# Altium footprint library Arduino_FPGA_Shield.PcbLib: 31 footprints (part 1 of 2)
Each footprint in its own frame and in the unit in brackets; x right, y up, seen from the top. Pads: shape width x height; smd on the part's side, far side on the other; paste and mask are expansions set on the pad; w line width, h text height; cw(c..) or ccw(c..) is an arc to the next point about the centre after c.
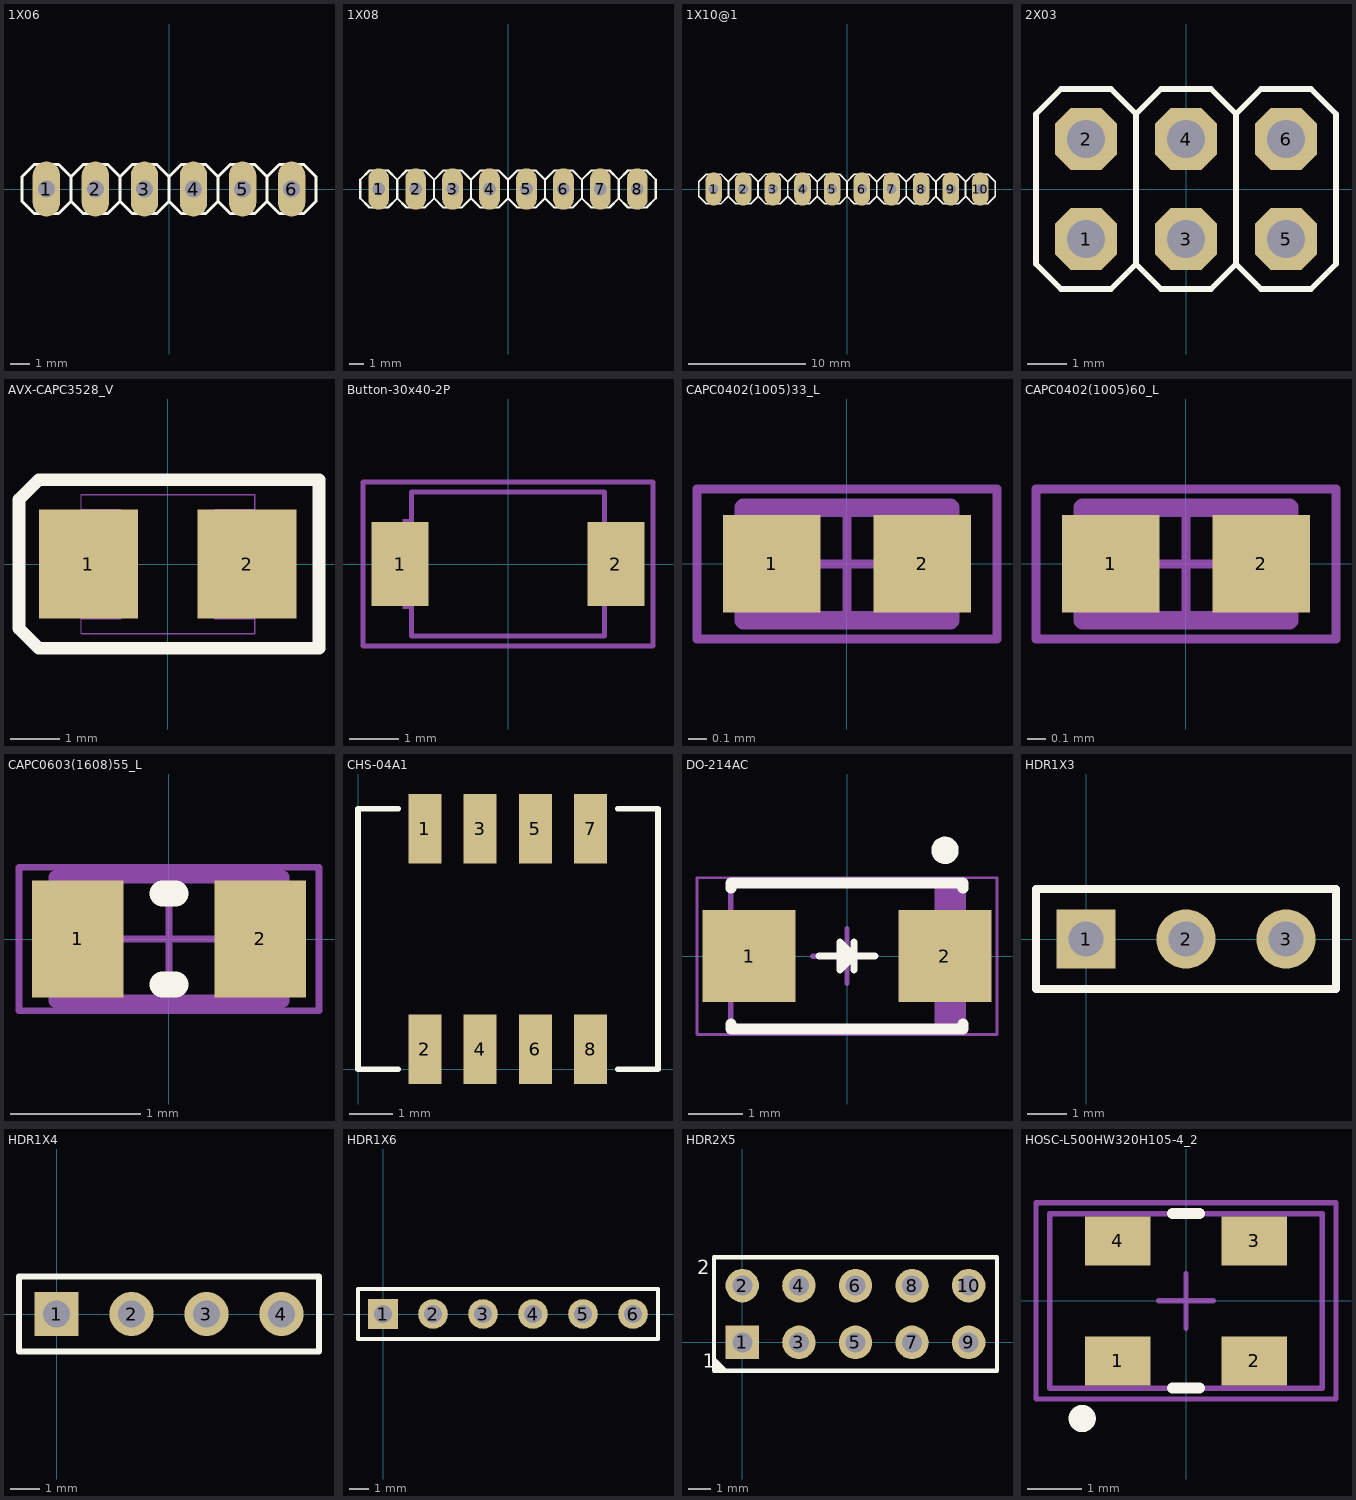
[diagram p0: the footprints below, top view; thin cyan lines are the x and y axes]

## 1X06 [mil] "1X06"
pads (6):
  oval 56x112 hole 34: 1(-250,0) 2(-150,0) 3(-50,0) 4(50,0) 5(150,0) 6(250,0)
Top Overlay:
  lines w6: -200,-25 -200,25 ; -200,-25 -225,-50 -275,-50 -300,-25 -300,25 -275,50 -225,50 -200,25 ; -200,-25 -175,-50 -125,-50 -100,-25 ; -200,25 -175,50 -125,50 -100,25 ; -100,-25 -75,-50 -25,-50 0,-25 ; -100,-25 -100,25 ; -100,25 -75,50 -25,50 0,25 ; 0,-25 0,25 ; 0,-25 25,-50 75,-50 100,-25 ; 0,25 25,50 75,50 100,25 ; 100,-25 100,25 ; 100,-25 125,-50 175,-50 200,-25 ; 100,25 125,50 175,50 200,25 ; 200,-25 200,25 ; 200,-25 225,-50 275,-50 300,-25 300,25 275,50 225,50 200,25
Mechanical 16:
  rectangle: 140,-10 160,10
  rectangle: 40,-10 60,10
  rectangle: -60,-10 -40,10
  rectangle: -160,-10 -140,10
  rectangle: -260,-10 -240,10
  rectangle: 240,-10 260,10
3D body: height 335.25, standoff -411.19, extent -299.99,-49.99 300.01,50.01

## 1X08 [mil] "1X08"
pads (8):
  oval 56x112 hole 34: 1(-350,0) 2(-250,0) 3(-150,0) 4(-50,0) 5(50,0) 6(150,0) 7(250,0) 8(350,0)
Top Overlay:
  lines w6: -300,-25 -275,-50 -225,-50 -200,-25 ; -300,-25 -325,-50 -375,-50 -400,-25 -400,25 -375,50 -325,50 -300,25 ; -300,-25 -300,25 ; -300,25 -275,50 -225,50 -200,25 ; -200,-25 -200,25 ; -200,-25 -175,-50 -125,-50 -100,-25 ; -200,25 -175,50 -125,50 -100,25 ; -100,-25 -75,-50 -25,-50 0,-25 ; -100,-25 -100,25 ; -100,25 -75,50 -25,50 0,25 ; 0,-25 25,-50 75,-50 100,-25 ; 0,-25 0,25 ; 0,25 25,50 75,50 100,25 ; 100,-25 100,25 ; 100,-25 125,-50 175,-50 200,-25 ; 100,25 125,50 175,50 200,25 ; 200,-25 225,-50 275,-50 300,-25 ; 200,-25 200,25 ; 200,25 225,50 275,50 300,25 ; 300,-25 325,-50 375,-50 400,-25 400,25 375,50 325,50 300,25 ; 300,-25 300,25
Mechanical 16:
  rectangle: 340,-10 360,10
  rectangle: -360,-10 -340,10
  rectangle: -260,-10 -240,10
  rectangle: -160,-10 -140,10
  rectangle: -60,-10 -40,10
  rectangle: 40,-10 60,10
  rectangle: 140,-10 160,10
  rectangle: 240,-10 260,10
3D body: height 335.25, standoff -411.19, extent -399.99,-49.99 400.01,50.01

## 1X10@1 [mil] "1X10@1"
pads (10):
  oval 56x112 hole 34: 1(-450,0) 2(-350,0) 3(-250,0) 4(-150,0) 5(-50,0) 6(50,0) 7(150,0) 8(250,0) 9(350,0) 10(450,0)
Top Overlay:
  lines w6: -400,-25 -375,-50 -325,-50 -300,-25 ; -400,-25 -425,-50 -475,-50 -500,-25 -500,25 -475,50 -425,50 -400,25 ; -400,-25 -400,25 ; -400,25 -375,50 -325,50 -300,25 ; -300,-25 -300,25 ; -300,-25 -275,-50 -225,-50 -200,-25 ; -300,25 -275,50 -225,50 -200,25 ; -200,-25 -175,-50 -125,-50 -100,-25 ; -200,-25 -200,25 ; -200,25 -175,50 -125,50 -100,25 ; -100,-25 -75,-50 -25,-50 0,-25 ; -100,-25 -100,25 ; -100,25 -75,50 -25,50 0,25 ; 0,-25 0,25 ; 0,-25 25,-50 75,-50 100,-25 ; 0,25 25,50 75,50 100,25 ; 100,-25 125,-50 175,-50 200,-25 ; 100,-25 100,25 ; 100,25 125,50 175,50 200,25 ; 200,-25 225,-50 275,-50 300,-25 ; 200,-25 200,25 ; 200,25 225,50 275,50 300,25 ; 300,-25 300,25 ; 300,-25 325,-50 375,-50 400,-25 ; 300,25 325,50 375,50 400,25 ; 400,-25 425,-50 475,-50 500,-25 500,25 475,50 425,50 400,25 ; 400,-25 400,25
Mechanical 16:
  rectangle: 440,-10 460,10
  rectangle: -460,-10 -440,10
  rectangle: -360,-10 -340,10
  rectangle: -260,-10 -240,10
  rectangle: -160,-10 -140,10
  rectangle: -60,-10 -40,10
  rectangle: 40,-10 60,10
  rectangle: 140,-10 160,10
  rectangle: 240,-10 260,10
  rectangle: 340,-10 360,10
3D body: height 334.65, standoff -411.79, extent -499.99,-49.99 500.01,50.01

## 2X03 [mil] "2X03"
height 47.24
pads (6):
  oct 62x62 hole 38: 1(-100,-50) 2(-100,50) 3(0,-50) 4(0,50) 5(100,-50) 6(100,50)
Top Overlay:
  lines w6: -50,-75 -50,75 ; -50,-75 -25,-100 25,-100 50,-75 ; -50,-75 -75,-100 -125,-100 -150,-75 -150,75 -125,100 -75,100 -50,75 ; -50,75 -25,100 25,100 50,75 ; 50,-75 75,-100 125,-100 150,-75 150,75 125,100 75,100 50,75 ; 50,-75 50,75
Mechanical 16:
  rectangle: 90,-60 110,-40
  rectangle: 90,40 110,60
  rectangle: -10,-60 10,-40
  rectangle: -10,40 10,60
  rectangle: -110,40 -90,60
  rectangle: -110,-60 -90,-40
3D body: height 335.25, standoff -117.51, extent -149.99,-99.99 150.01,100.01

## AVX-CAPC3528_V [mm] "SMT Capacitor, 2 Leads, Body 3.5x2.8mm"
height 1.2
pads (2):
  rect 2x2.2 smd: 1(-1.6,0) 2(1.6,0)
Top Overlay:
  lines w0.254: -3,-1.3 -3,1.3 -2.6,1.7 3.05,1.7 3.05,-1.7 -2.6,-1.7 -3,-1.3
Mechanical 7:
  lines w0.025: -1.748,-1.404 1.752,-1.404 1.752,1.396 -1.748,1.396 ; -1.748,-1.104 -0.948,-1.104 -0.948,1.096 -1.748,1.096 ; -1.748,-1.404 -1.748,1.396 ; 1.752,-1.104 0.952,-1.104 0.952,1.096 1.752,1.096
3D body: height 1.9, standoff 0, extent -1.704,-1.539 1.763,1.537
3D body: height 0.3, standoff 0, extent 1.578,-0.658 1.803,0.768
3D body: height 0.3, standoff 0, extent -1.793,-0.665 -1.568,0.824

## Button-30x40-2P [mm]
height 1
pads (2):
  rect 1.15x1.7 smd: 1(-2.175,0) 2(2.175,0)
Mechanical 1:
  region: -2.125,0.9 -2,0.9 -2,-0.9 -2.125,-0.9
Mechanical 13:
  lines w0.1: -1.95,-1.45 1.95,-1.45 1.95,1.45 -1.95,1.45 -1.95,-1.45
Mechanical 15:
  lines w0.1: -2.921,-1.651 2.921,-1.651 2.921,1.651 -2.921,1.651 -2.921,-1.651
3D body: height 2.13, standoff 1.5, extent -0.868,-0.873 0.875,0.873
3D body: height 1.52, standoff 0.13, extent -1.95,-1.45 1.95,1.45
3D body: height 1.65, standoff 0, extent 1.375,-0.9 2.125,0.9
3D body: height 1.65, standoff 0, extent -2.125,-0.9 -1.375,0.9

## CAPC0402(1005)33_L [mm] "Chip Capacitor, Body 1.0x0.5mm, Height 0.33mm, IPC High Density"
height 0.33
pads (2):
  rect 0.52x0.52 smd: 1(-0.4,0) 2(0.4,0)
Mechanical 13:
  lines w0.1: -0.55,-0.3 0.55,-0.3 0.55,0.3 -0.55,0.3 -0.55,-0.3
Mechanical 15:
  lines w0.05: -0.3,0 0.3,0 ; 0,-0.3 0,0.3 ; -0.8,-0.4 0.8,-0.4 0.8,0.4 -0.8,0.4 -0.8,-0.4
3D body: height 0.33, standoff 0, extent 0.3,-0.3 0.55,0.3
3D body: height 0.33, standoff 0, extent -0.55,-0.3 -0.3,0.3
3D body: height 0.33, standoff 0, extent -0.3,-0.3 0.3,0.3

## CAPC0402(1005)60_L [mm] "Chip Capacitor, Body 1.0x0.5mm, Height 0.6mm, IPC High Density"
height 0.6
pads (2):
  rect 0.52x0.52 smd: 1(-0.4,0) 2(0.4,0)
Mechanical 13:
  lines w0.1: -0.55,-0.3 0.55,-0.3 0.55,0.3 -0.55,0.3 -0.55,-0.3
Mechanical 15:
  lines w0.05: -0.3,0 0.3,0 ; 0,-0.3 0,0.3 ; -0.8,-0.4 0.8,-0.4 0.8,0.4 -0.8,0.4 -0.8,-0.4
3D body: height 0.6, standoff 0, extent 0.3,-0.3 0.55,0.3
3D body: height 0.6, standoff 0, extent -0.55,-0.3 -0.3,0.3
3D body: height 0.6, standoff 0, extent -0.3,-0.3 0.3,0.3

## CAPC0603(1608)55_L [mm] "Chip Capacitor, Body 1.6x0.8mm, Height 0.55mm, IPC High Density"
height 0.55
pads (2):
  rect 0.7x0.9 smd: 1(-0.7,0) 2(0.7,0)
Top Overlay:
  lines w0.2: -0.05,-0.35 0.05,-0.35 ; -0.05,0.35 0.05,0.35
Mechanical 13:
  lines w0.1: -0.875,-0.475 0.875,-0.475 0.875,0.475 -0.875,0.475 -0.875,-0.475
Mechanical 15:
  lines w0.05: -0.475,0 0.475,0 ; 0,-0.475 0,0.475 ; -1.15,-0.55 1.15,-0.55 1.15,0.55 -1.15,0.55 -1.15,-0.55
3D body: height 0.55, standoff 0, extent 0.525,-0.475 0.875,0.475
3D body: height 0.55, standoff 0, extent -0.875,-0.475 -0.525,0.475
3D body: height 0.55, standoff 0, extent -0.525,-0.475 0.525,0.475

## CHS-04A1 [mm]
height 1.2
pads (8):
  rect 0.76x1.6 smd: 1(1.54,5.54) 2(1.54,0.46) 3(2.81,5.54) 4(2.81,0.46) 5(4.08,5.54) 6(4.08,0.46) 7(5.35,5.54) 8(5.35,0.46)
Top Overlay:
  lines w0.127: 0.93,0 0,0 0,6 0.93,6 ; 5.97,0 6.9,0 6.9,6 5.97,6
3D body: height 2.75, standoff 0.2, extent 2.33,1 3.29,3
3D body: height 2.25, standoff 0.2, extent 4.87,0.97 6,5
3D body: height 2.25, standoff 0.2, extent 3.6,1 4.7,5
3D body: height 2.25, standoff 0.2, extent 2.33,1 3.4,5
3D body: height 2.25, standoff 0.2, extent 1.06,1 2.1,5
3D body: height 2.75, standoff 0.2, extent 1.06,1 2.02,3
3D body: height 2.75, standoff 0.2, extent 3.6,3 4.56,5
3D body: height 2.75, standoff 0.2, extent 4.87,1 5.83,3
3D body: height 2.5, standoff 0.2, extent 0,0 6.9,6
3D body: height 2.5, standoff 0.2, extent 2.02,1 2.33,5
3D body: height 2.5, standoff 0.2, extent 3.29,1 3.6,5
3D body: height 2.5, standoff 0.2, extent 4.56,1 4.87,5
3D body: height 1.5, standoff 0.2, extent 1.06,1 2.1,5
3D body: height 1.5, standoff 0.2, extent 2.33,1 3.4,5
3D body: height 1.5, standoff 0.2, extent 3.6,1 4.7,5
3D body: height 1.5, standoff 0.2, extent 4.87,0.97 6,5
3D body: height 1.5, standoff 0, extent 1.06,6 2.02,6.2
3D body: height 1.5, standoff 0, extent 2.33,6 3.29,6.2
3D body: height 1.5, standoff 0, extent 3.6,6 4.56,6.2
3D body: height 1.5, standoff 0, extent 4.87,6 5.83,6.2
3D body: height 1.5, standoff 0, extent 1.06,-0.2 2.01,0
3D body: height 1.5, standoff 0, extent 2.32,-0.2 3.28,0
3D body: height 1.5, standoff 0, extent 3.59,-0.2 4.55,0
3D body: height 1.5, standoff 0, extent 4.86,-0.2 5.82,0
3D body: height 0.2, standoff 0, extent 1.06,-0.2 2.01,0.8
3D body: height 0.2, standoff 0, extent 2.32,-0.2 3.28,0.8
3D body: height 0.2, standoff 0, extent 3.59,-0.2 4.55,0.8
3D body: height 0.2, standoff 0, extent 4.86,-0.2 5.82,0.8
3D body: height 0.2, standoff 0, extent 1.06,5.2 2.02,6.2
3D body: height 0.2, standoff 0, extent 2.33,5.2 3.29,6.2
3D body: height 0.2, standoff 0, extent 3.6,5.2 4.56,6.2
3D body: height 0.2, standoff 0, extent 4.87,5.2 5.83,6.2

## DO-214AC [mm] "SMA, 2-Leads, Body 4.245x2.665mm, Height 2.29mm"
height 2.29
pads (2):
  rect 1.7x1.68 smd: 1(-1.79,0) 2(1.79,0)
Top Overlay:
  circle w0.25: c1.79,1.933 r0.125
  lines w0.127: -0.508,0 0.508,0 ; 0.127,-0.254 0.127,0.254 ; 0.127,0 -0.127,-0.254 -0.127,0.254 0.127,0 ; 0.127,0 0,0.127 0,-0.127 0.127,0
  lines w0.2: -2.123,-1.24 -2.123,-1.332 2.123,-1.332 2.123,-1.24 ; -2.123,1.24 -2.123,1.332 2.123,1.332 2.123,1.24
Mechanical 13:
  rectangle: 1.6,-1.3 2.1,1.3
  lines w0.1: -2.122,-1.333 -2.122,1.333 2.122,1.333 2.122,-1.333 -2.122,-1.333
Mechanical 15:
  lines w0.05: -2.74,-1.433 2.74,-1.433 2.74,1.432 -2.74,1.433 -2.74,-1.432
  lines w0.1: -0.627,0 0.373,0 ; 0,-0.5 0,0.5
3D body: height -0.41, standoff -1.67, extent -2.567,-0.725 -1.159,0.725
3D body: height -0.41, standoff -1.67, extent 1.159,-0.725 2.567,0.725
3D body: height 2.29, standoff 0, extent -2.123,-1.333 2.122,1.332

## HDR1X3 [mm] "Connector; Header; 3 Position"
height 1.2
pads (3):
  rect 1.5x1.5 hole 0.9: 1(0,0)
  round 1.5 hole 0.9: 2(2.54,0) 3(5.08,0)
Top Overlay:
  lines w0.2: -1.27,-1.27 -1.27,1.27 6.35,1.27 6.35,-1.27 -1.27,-1.27
3D body: height 8.22, standoff -2.98, extent -1.17,-1.246 6.45,1.253

## HDR1X4 [mm] "Connector; Header; 4 Position"
height 1
pads (4):
  rect 1.5x1.5 hole 0.9: 1(0,0)
  round 1.5 hole 0.9: 2(2.54,0) 3(5.08,0) 4(7.62,0)
Top Overlay:
  lines w0.2: -1.27,-1.27 8.89,-1.27 8.89,1.27 -1.27,1.27 -1.27,-1.27
3D body: height 8.2, standoff -3, extent -1.17,-1.245 8.99,1.253

## HDR1X6 [mm] "Connector; Header; 6 Position"
height 1.2
pads (6):
  rect 1.5x1.5 hole 0.9: 1(0,0)
  round 1.5 hole 0.9: 2(2.54,0) 3(5.08,0) 4(7.62,0) 5(10.16,0) 6(12.7,0)
Top Overlay:
  lines w0.2: -1.27,-1.27 -1.27,1.27 13.97,1.27 13.97,-1.27 -1.27,-1.27
3D body: height 8.2, standoff -3, extent -1.17,-1.246 14.07,1.253

## HDR2X5 [mm] "Connector; Header; 5x2 Position"
height 1.2
pads (10):
  rect 1.5x1.5 hole 0.9: 1(0,0)
  round 1.5 hole 0.9: 2(0,2.54) 3(2.54,0) 4(2.54,2.54) 5(5.08,0) 6(5.08,2.54) 7(7.62,0) 8(7.62,2.54) 9(10.16,0) 10(10.16,2.54)
Top Overlay:
  region: -1.27,-0.635 -0.635,-1.27 -1.27,-1.27
  lines w0.2: -1.27,-1.27 11.43,-1.27 11.43,3.81 -1.27,3.81 -1.27,-1.27
  text "1" at -1.778,-1.143 h0.64
  text "2" at -2.032,3.048 h0.64
3D body: height 8.5, standoff -3, extent -1.27,-1.27 11.43,3.81

## HOSC-L500HW320H105-4_2 [mm] "Quartz Crystal, Body 5.0 x 3.2 mm, Height 1.05mm"
height 1.05
pads (4):
  rect 1.2x0.9 smd: 1(-1.25,-1.1) 2(1.25,-1.1) 3(1.25,1.1) 4(-1.25,1.1)
Top Overlay:
  circle w0.25: c-1.903,-2.159 r0.125
  lines w0.2: -0.25,-1.6 0.25,-1.6 ; -0.25,1.6 0.25,1.6
Mechanical 13:
  lines w0.1: -2.5,-1.6 -2.5,1.6 2.5,1.6 2.5,-1.6 -2.5,-1.6
Mechanical 15:
  lines w0.1: -0.5,0 0.5,0 ; 0,-0.5 0,0.5 ; -2.75,-1.8 2.75,-1.8 2.75,1.8 -2.75,1.8 -2.75,-1.8
3D body: height 1, standoff 0, extent -2.5,-1.6 2.5,1.6